# Altium schematic symbol library Resistor_0805.SchLib: 259 symbols (part 5 of 6)
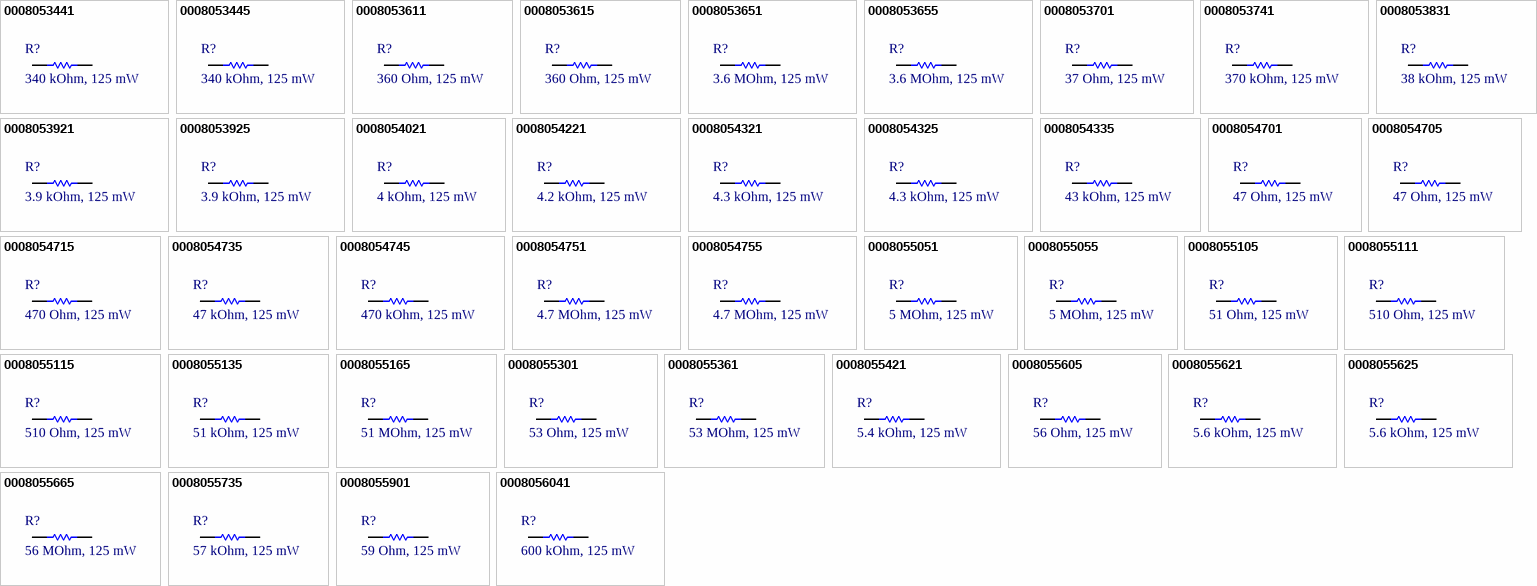
[diagram p10: symbols 0008053441 to 0008056041]

## 0008054701
designator R?, comment 47 Ohm, 125 mW
RES, size 0805, 47 Ohm, 1/8W, 1%; Resistance: 47 Ohm; Rated Power: 125 mW; Value: 47 Ohm; Tolerance: +/-1%; Supplier 1 URL: https://www.mouser.vn/ProductDetail/Vishay-Dale/CRCW080547R0FKEAC?qs=sGAEpiMZZMtG0KNrPCHnjXEaY7S8QU1xqWAhWghT5Nm8CvYwuUC%2Fbg%3D%3D; Supplier 2 URL: https://www.digikey.com/en/products/detail/yageo/AC0805FR-0747RL/5896860; Supplier 3 URL: N/A; Packaging: Tape and Reel; Supplier 1: Mouser; Supplier 1 Part Number: 71-CRCW080547R0FKEAC; Supplier 2: Digi-Key; Supplier 2 Part Number: YAG3736DKR-ND; Supplier 3: thegioiic; Supplier 3 Part Number: OEM; Manufacturer: N/A; Manufacturer Part Number: N/A; ComponentLink1Description: Datasheet; ComponentLink1URL: N/A; Mount: SMD/SMT; Operating Temperature Max: + 85 C; Operating Temperature Min: - 40 C; Package / Case: 0805; LCSC Part #: N/A
footprint RES_0805 (Chip Resistor, 2-Leads, Body 2.05x1.25mm, IPC Medium Density)
simulation model R_Resistor_Default (Model Description)
signal-integrity model Resistor Model
pins: 1, 2

## 0008054705
designator R?, comment 47 Ohm, 125 mW
RES, size 0805, 47 Ohm, 1/8W, 1%; Resistance: 47 Ohm; Rated Power: 125 mW; Value: 47 Ohm; Tolerance: +/-1%; Supplier 1 URL: https://www.mouser.vn/ProductDetail/YAGEO/SR0805JR-7W47RL?qs=qpJ%252B%252B%252Bdg6p2peTGbDOh2RQ%3D%3D; Supplier 2 URL: https://www.digikey.com/en/products/detail/yageo/RC0805JR-0747RL/728335; Supplier 3 URL: N/A; Packaging: Tape and Reel; Supplier 1: Mouser; Supplier 1 Part Number: 603-SR0805JR-7W47RL; Supplier 2: Digi-Key; Supplier 2 Part Number: 311-47ARTR-ND; Supplier 3: thegioiic; Supplier 3 Part Number: OEM; Manufacturer: N/A; Manufacturer Part Number: N/A; ComponentLink1Description: Datasheet; ComponentLink1URL: N/A; Mount: SMD/SMT; Operating Temperature Max: + 85 C; Operating Temperature Min: - 40 C; Package / Case: 0805; LCSC Part #: N/A
footprint RES_0805 (Chip Resistor, 2-Leads, Body 2.05x1.25mm, IPC Medium Density)
simulation model R_Resistor_Default (Model Description)
signal-integrity model Resistor Model
pins: 1, 2

## 0008054715
designator R?, comment 470 Ohm, 125 mW
RES, size 0805, 470 Ohm, 1/8W, 1%; Resistance: 470 Ohm; Rated Power: 125 mW; Value: 470 Ohm; Tolerance: +/-1%; Supplier 1 URL: N/A; Supplier 2 URL: https://www.digikey.com/en/products/detail/yageo/RC0805JR-07470RL/728333; Supplier 3 URL: N/A; Packaging: Tape and Reel; Supplier 1: Mouser; Supplier 1 Part Number: N/A; Supplier 2: Digi-Key; Supplier 2 Part Number: 311-470ARTR-ND; Supplier 3: thegioiic; Supplier 3 Part Number: OEM; Manufacturer: N/A; Manufacturer Part Number: N/A; ComponentLink1Description: Datasheet; ComponentLink1URL: N/A; Mount: SMD/SMT; Operating Temperature Max: + 85 C; Operating Temperature Min: - 40 C; Package / Case: 0805; LCSC Part #: N/A
footprint RES_0805 (Chip Resistor, 2-Leads, Body 2.05x1.25mm, IPC Medium Density)
simulation model R_Resistor_Default (Model Description)
signal-integrity model Resistor Model
pins: 1, 2

## 0008054735
designator R?, comment 47 kOhm, 125 mW
RES, size 0805, 47 kOhm, 1/8W, 1%; Resistance: 47 kOhm; Rated Power: 125 mW; Value: 47 kOhm; Tolerance: +/-1%; Supplier 1 URL: https://www.mouser.vn/ProductDetail/Bourns/CR0805-JW-473ELF?qs=%252BcBkmVQIZ2S5L%2FTv0l5Nkg%3D%3D; Supplier 2 URL: https://www.digikey.com/en/products/detail/yageo/RC0805JR-1347KL/14286620; Supplier 3 URL: N/A; Packaging: Tape and Reel; Supplier 1: Mouser; Supplier 1 Part Number: 652-CR0805JW-473ELF; Supplier 2: Digi-Key; Supplier 2 Part Number: 13-RC0805JR-1347KLTR-ND; Supplier 3: thegioiic; Supplier 3 Part Number: OEM; Manufacturer: N/A; Manufacturer Part Number: N/A; ComponentLink1Description: Datasheet; ComponentLink1URL: N/A; Mount: SMD/SMT; Operating Temperature Max: + 85 C; Operating Temperature Min: - 40 C; Package / Case: 0805; LCSC Part #: N/A
footprint RES_0805 (Chip Resistor, 2-Leads, Body 2.05x1.25mm, IPC Medium Density)
simulation model R_Resistor_Default (Model Description)
signal-integrity model Resistor Model
pins: 1, 2

## 0008054745
designator R?, comment 470 kOhm, 125 mW
RES, size 0805, 470 kOhm, 1/8W, 1%; Rated Power: 125 mW; Tolerance: +/-1%; Resistance: 470 kOhm; Supplier 1 URL: https://www.mouser.vn/ProductDetail/YAGEO/RC0805JR-10470KL?qs=qpJ%252B%252B%252Bdg6p2o1a4CuTWYzg%3D%3D; Supplier 2 URL: https://www.digikey.com/en/products/detail/yageo/RC0805JR-07470KL/728334; Supplier 3 URL: N/A; Value: 470 kOhm; Packaging: Tape and Reel; Supplier 1: Mouser; Supplier 1 Part Number: 603-RC0805JR-10470KL; Supplier 2: Digi-Key; Supplier 2 Part Number: 311-470KARTR-ND; Supplier 3: thegioiic; Supplier 3 Part Number: OEM; Manufacturer: N/A; Manufacturer Part Number: N/A; ComponentLink1Description: Datasheet; ComponentLink1URL: N/A; Mount: SMD/SMT; Operating Temperature Max: + 85 C; Operating Temperature Min: - 40 C; Package / Case: 0805; LCSC Part #: N/A
footprint RES_0805 (Chip Resistor, 2-Leads, Body 2.05x1.25mm, IPC Medium Density)
simulation model R_Resistor_Default (Model Description)
signal-integrity model Resistor Model
pins: 1, 2

## 0008054751
designator R?, comment 4.7 MOhm, 125 mW
RES, size 0805, 4.7 MOhm, 1/8W, 1%; Rated Power: 125 mW; Tolerance: +/-1%; Resistance: 4.7 MOhm; Supplier 1 URL: https://www.mouser.vn/ProductDetail/Vishay-Dale/CRCW08054M70FKEAC?qs=sGAEpiMZZMtG0KNrPCHnjXEaY7S8QU1xD%2FzUprtrgpPLDplF24MA4A%3D%3D; Supplier 2 URL: https://www.digikey.com/en/products/detail/yageo/RC0805FR-074M7L/727930; Supplier 3 URL: N/A; Value: 4.7 MOhm; Packaging: Tape and Reel; Supplier 1: Mouser; Supplier 1 Part Number: 71-CRCW08054M70FKEAC; Supplier 2: Digi-Key; Supplier 2 Part Number: 311-4.70MCRDKR-ND; Supplier 3: thegioiic; Supplier 3 Part Number: OEM; Manufacturer: N/A; Manufacturer Part Number: N/A; ComponentLink1Description: Datasheet; ComponentLink1URL: N/A; Mount: SMD/SMT; Operating Temperature Max: + 85 C; Operating Temperature Min: - 40 C; Package / Case: 0805; LCSC Part #: N/A
footprint RES_0805 (Chip Resistor, 2-Leads, Body 2.05x1.25mm, IPC Medium Density)
simulation model R_Resistor_Default (Model Description)
signal-integrity model Resistor Model
pins: 1, 2

## 0008054755
designator R?, comment 4.7 MOhm, 125 mW
RES, size 0805, 4.7 MOhm, 1/8W, 1%; Rated Power: 125 mW; Tolerance: +/-1%; Resistance: 4.7 MOhm; Supplier 1 URL: https://www.mouser.vn/ProductDetail/YAGEO/RV0805JR-074M7L?qs=XvqVlMQ4V3WjwKR%2FSBdWbg%3D%3D; Supplier 2 URL: https://www.digikey.com/en/products/detail/yageo/RC0805JR-074M7L/728328; Supplier 3 URL: N/A; Value: 4.7 MOhm; Packaging: Tape and Reel; Supplier 1: Mouser; Supplier 1 Part Number: 603-RV0805JR-074M7L; Supplier 2: Digi-Key; Supplier 2 Part Number: 311-4.7MARTR-ND; Supplier 3: thegioiic; Supplier 3 Part Number: OEM; Manufacturer: N/A; Manufacturer Part Number: N/A; ComponentLink1Description: Datasheet; ComponentLink1URL: N/A; Mount: SMD/SMT; Operating Temperature Max: + 85 C; Operating Temperature Min: - 40 C; Package / Case: 0805; LCSC Part #: N/A
footprint RES_0805 (Chip Resistor, 2-Leads, Body 2.05x1.25mm, IPC Medium Density)
simulation model R_Resistor_Default (Model Description)
signal-integrity model Resistor Model
pins: 1, 2

## 0008055051
designator R?, comment 5 MOhm, 125 mW
RES, size 0805, 5 MOhm, 1/8W, 1%; Resistance: 5 MOhm; Rated Power: 125 mW; Value: 5 MOhm; Tolerance: +/-1%; Supplier 1 URL: N/A; Supplier 2 URL: https://www.digikey.com/en/products/detail/ohmite/HVC0805T5004JET/2709618; Supplier 3 URL: N/A; Packaging: Tape and Reel; Supplier 1: Mouser; Supplier 1 Part Number: N/A; Supplier 2: Digi-Key; Supplier 2 Part Number: HVC0805T5004JETDKR-ND; Supplier 3: thegioiic; Supplier 3 Part Number: OEM; Manufacturer: N/A; Manufacturer Part Number: N/A; ComponentLink1Description: Datasheet; ComponentLink1URL: N/A; Mount: SMD/SMT; Operating Temperature Max: + 85 C; Operating Temperature Min: - 40 C; Package / Case: 0805; LCSC Part #: N/A
footprint RES_0805 (Chip Resistor, 2-Leads, Body 2.05x1.25mm, IPC Medium Density)
simulation model R_Resistor_Default (Model Description)
signal-integrity model Resistor Model
pins: 1, 2

## 0008055055
designator R?, comment 5 MOhm, 125 mW
RES, size 0805, 5 MOhm, 1/8W, 1%; Resistance: 5 MOhm; Rated Power: 125 mW; Value: 5 MOhm; Tolerance: +/-1%; Supplier 1 URL: https://www.mouser.vn/ProductDetail/Ohmite/HVC0805T5004JET?qs=IinxsTLir9kGxgRcWz40Rg%3D%3D; Supplier 2 URL: https://www.digikey.com/en/products/detail/ohmite/HVC0805T5004JET/2709618?s=N4IgjCBcoMxaBjKAzAhgGwM4FMA0IB7KAbRACYBWABjgF18AHAFyhAGUmAnASwDsBzEAF98YMgE4I0EEkhoseQiRAxxMMgA4Q9EM1YceA4fjJUNFeDJQYc%2BIpFIUABAFkA8gAsAtpm2MWkCAAqrzcTG7ILtiomACunNjCQkJAA; Supplier 3 URL: N/A; Packaging: Tape and Reel; Supplier 1: Mouser; Supplier 1 Part Number: 588-HVC0805T5004JET; Supplier 2: Digi-Key; Supplier 2 Part Number: HVC0805T5004JETTR-ND; Supplier 3: thegioiic; Supplier 3 Part Number: OEM; Manufacturer: N/A; Manufacturer Part Number: N/A; ComponentLink1Description: Datasheet; ComponentLink1URL: N/A; Mount: SMD/SMT; Operating Temperature Max: + 85 C; Operating Temperature Min: - 40 C; Package / Case: 0805; LCSC Part #: N/A
footprint RES_0805 (Chip Resistor, 2-Leads, Body 2.05x1.25mm, IPC Medium Density)
simulation model R_Resistor_Default (Model Description)
signal-integrity model Resistor Model
pins: 1, 2

## 0008055105
designator R?, comment 51 Ohm, 125 mW
RES, size 0805, 51 Ohm, 1/8W, 1%; Resistance: 51 Ohm; Rated Power: 125 mW; Value: 51 Ohm; Tolerance: +/-1%; Supplier 1 URL: https://www.mouser.vn/ProductDetail/YAGEO/AR0805JR-0751RL?qs=FNor9lU6pf8H%252BiQv38MEeQ%3D%3D; Supplier 2 URL: https://www.digikey.com/en/products/detail/yageo/RC0805JR-0751RL/728345; Supplier 3 URL: N/A; Packaging: Tape and Reel; Supplier 1: Mouser; Supplier 1 Part Number: 603-AR0805JR-0751RL; Supplier 2: Digi-Key; Supplier 2 Part Number: 311-51ARTR-ND; Supplier 3: thegioiic; Supplier 3 Part Number: OEM; Manufacturer: N/A; Manufacturer Part Number: N/A; ComponentLink1Description: Datasheet; ComponentLink1URL: N/A; Mount: SMD/SMT; Operating Temperature Max: + 85 C; Operating Temperature Min: - 40 C; Package / Case: 0805; LCSC Part #: N/A
footprint RES_0805 (Chip Resistor, 2-Leads, Body 2.05x1.25mm, IPC Medium Density)
simulation model R_Resistor_Default (Model Description)
signal-integrity model Resistor Model
pins: 1, 2

## 0008055111
designator R?, comment 510 Ohm, 125 mW
RES, size 0805, 510 Ohm, 1/8W, 1%; Resistance: 510 Ohm; Rated Power: 125 mW; Value: 510 Ohm; Tolerance: +/-1%; Supplier 1 URL: https://www.mouser.vn/ProductDetail/ROHM-Semiconductor/SFR10EZPF5100?qs=sGAEpiMZZMtlubZbdhIBIONtIqra%2FA5YrlwGIIC%252BgoQ%3D; Supplier 2 URL: https://www.digikey.com/en/products/detail/yageo/RC0805JR-07510RL/728343; Supplier 3 URL: N/A; Packaging: Tape and Reel; Supplier 1: Mouser; Supplier 1 Part Number: 755-SFR10EZPF5100; Supplier 2: Digi-Key; Supplier 2 Part Number: 311-510ARDKR-ND; Supplier 3: thegioiic; Supplier 3 Part Number: OEM; Manufacturer: N/A; Manufacturer Part Number: N/A; ComponentLink1Description: Datasheet; ComponentLink1URL: N/A; Mount: SMD/SMT; Operating Temperature Max: + 85 C; Operating Temperature Min: - 40 C; Package / Case: 0805; LCSC Part #: N/A
footprint RES_0805 (Chip Resistor, 2-Leads, Body 2.05x1.25mm, IPC Medium Density)
simulation model R_Resistor_Default (Model Description)
signal-integrity model Resistor Model
pins: 1, 2

## 0008055115
designator R?, comment 510 Ohm, 125 mW
RES, size 0805, 510 Ohm, 1/8W, 1%; Resistance: 510 Ohm; Rated Power: 125 mW; Value: 510 Ohm; Tolerance: +/-1%; Supplier 1 URL: https://www.mouser.vn/ProductDetail/YAGEO/AR0805JR-07510RL?qs=tggtontpCXM60VkCGWdMxQ%3D%3D; Supplier 2 URL: https://www.digikey.com/en/products/detail/yageo/RC0805JR-07510RL/728343; Supplier 3 URL: N/A; Packaging: Tape and Reel; Supplier 1: Mouser; Supplier 1 Part Number: 603-AR0805JR-07510RL; Supplier 2: Digi-Key; Supplier 2 Part Number: 311-510ARTR-ND; Supplier 3: thegioiic; Supplier 3 Part Number: OEM; Manufacturer: N/A; Manufacturer Part Number: N/A; ComponentLink1Description: Datasheet; ComponentLink1URL: N/A; Mount: SMD/SMT; Operating Temperature Max: + 85 C; Operating Temperature Min: - 40 C; Package / Case: 0805; LCSC Part #: N/A
footprint RES_0805 (Chip Resistor, 2-Leads, Body 2.05x1.25mm, IPC Medium Density)
simulation model R_Resistor_Default (Model Description)
signal-integrity model Resistor Model
pins: 1, 2

## 0008055135
designator R?, comment 51 kOhm, 125 mW
RES, size 0805, 51 kOhm, 1/8W, 1%; Resistance: 51 kOhm; Rated Power: 125 mW; Value: 51 kOhm; Tolerance: +/-1%; Supplier 1 URL: https://www.mouser.vn/ProductDetail/YAGEO/AC0805JR-0751KL?qs=ygRr%2FtkhteugpbacGAXg%2FA%3D%3D; Supplier 2 URL: https://www.digikey.com/en/products/detail/yageo/RC0805JR-0751KL/728346; Supplier 3 URL: N/A; Packaging: Tape and Reel; Supplier 1: Mouser; Supplier 1 Part Number: 603-AC0805JR-0751KL; Supplier 2: Digi-Key; Supplier 2 Part Number: 311-51KARTR-ND; Supplier 3: thegioiic; Supplier 3 Part Number: OEM; Manufacturer: N/A; Manufacturer Part Number: N/A; ComponentLink1Description: Datasheet; ComponentLink1URL: N/A; Mount: SMD/SMT; Operating Temperature Max: + 85 C; Operating Temperature Min: - 40 C; Package / Case: 0805; LCSC Part #: N/A
footprint RES_0805 (Chip Resistor, 2-Leads, Body 2.05x1.25mm, IPC Medium Density)
simulation model R_Resistor_Default (Model Description)
signal-integrity model Resistor Model
pins: 1, 2

## 0008055165
designator R?, comment 51 MOhm, 125 mW
RES, size 0805, 51 MOhm, 1/8W, 1%; Resistance: 51 MOhm; Rated Power: 125 mW; Value: 51 MOhm; Tolerance: +/-1%; Supplier 1 URL: https://www.mouser.vn/ProductDetail/YAGEO/RC0805JR-0751ML?qs=tggtontpCXNdnbFdxTk8lw%3D%3D; Supplier 2 URL: https://www.digikey.com/en/products/detail/yageo/RC0805JR-0751ML/5919068; Supplier 3 URL: N/A; Packaging: Tape and Reel; Supplier 1: Mouser; Supplier 1 Part Number: 603-RC0805JR-0751ML; Supplier 2: Digi-Key; Supplier 2 Part Number: 13-RC0805JR-0751MLTR-ND; Supplier 3: thegioiic; Supplier 3 Part Number: OEM; Manufacturer: N/A; Manufacturer Part Number: N/A; ComponentLink1Description: Datasheet; ComponentLink1URL: N/A; Mount: SMD/SMT; Operating Temperature Max: + 85 C; Operating Temperature Min: - 40 C; Package / Case: 0805; LCSC Part #: N/A
footprint RES_0805 (Chip Resistor, 2-Leads, Body 2.05x1.25mm, IPC Medium Density)
simulation model R_Resistor_Default (Model Description)
signal-integrity model Resistor Model
pins: 1, 2

## 0008055301
designator R?, comment 53 Ohm, 125 mW
RES, size 0805, 53 Ohm, 1/8W, 1%; Resistance: 53 Ohm; Rated Power: 125 mW; Value: 53 Ohm; Tolerance: +/-1%; Supplier 1 URL: N/A; Supplier 2 URL: https://www.digikey.com/en/products/detail/koa-speer-electronics-inc/RN73R2ATTD53R0F25/10034310; Supplier 3 URL: N/A; Packaging: Tape and Reel; Supplier 1: Mouser; Supplier 1 Part Number: N/A; Supplier 2: Digi-Key; Supplier 2 Part Number: 2019-RN73R2ATTD53R0F25DKR-ND; Supplier 3: thegioiic; Supplier 3 Part Number: OEM; Manufacturer: N/A; Manufacturer Part Number: N/A; ComponentLink1Description: Datasheet; ComponentLink1URL: N/A; Mount: SMD/SMT; Operating Temperature Max: + 85 C; Operating Temperature Min: - 40 C; Package / Case: 0805; LCSC Part #: N/A
footprint RES_0805 (Chip Resistor, 2-Leads, Body 2.05x1.25mm, IPC Medium Density)
simulation model R_Resistor_Default (Model Description)
signal-integrity model Resistor Model
pins: 1, 2

## 0008055361
designator R?, comment 53 MOhm, 125 mW
RES, size 0805, 53 MOhm, 1/8W, 1%; Resistance: 53 MOhm; Rated Power: 125 mW; Value: 53 MOhm; Tolerance: +/-1%; Supplier 1 URL: https://www.mouser.vn/ProductDetail/Bourns/CR0805-FX-4872ELF?qs=sGAEpiMZZMtlubZbdhIBIL%252BKkaYz7rs3OXEDnL6C198%3D; Supplier 2 URL: https://www.digikey.com/en/products/detail/panasonic-electronic-components/ERJ-6ENF4872V/111609; Supplier 3 URL: N/A; Packaging: Tape and Reel; Supplier 1: Mouser; Supplier 1 Part Number: 652-CR0805FX-4872ELF; Supplier 2: Digi-Key; Supplier 2 Part Number: P48.7KCDKR-ND; Supplier 3: thegioiic; Supplier 3 Part Number: OEM; Manufacturer: N/A; Manufacturer Part Number: N/A; ComponentLink1Description: Datasheet; ComponentLink1URL: N/A; Mount: SMD/SMT; Operating Temperature Max: + 85 C; Operating Temperature Min: - 40 C; Package / Case: 0805; LCSC Part #: N/A
footprint RES_0805 (Chip Resistor, 2-Leads, Body 2.05x1.25mm, IPC Medium Density)
simulation model R_Resistor_Default (Model Description)
signal-integrity model Resistor Model
pins: 1, 2

## 0008055421
designator R?, comment 5.4 kOhm, 125 mW
RES, size 0805, 5.4 kOhm, 1/8W, 1%; Rated Power: 125 mW; Tolerance: +/-1%; Resistance: 5.4 kOhm; Supplier 1 URL: https://www.mouser.vn/ProductDetail/Bourns/CR0805-FX-4872ELF?qs=sGAEpiMZZMtlubZbdhIBIL%252BKkaYz7rs3OXEDnL6C198%3D; Supplier 2 URL: https://www.digikey.com/en/products/detail/panasonic-electronic-components/ERJ-6ENF4872V/111609; Supplier 3 URL: N/A; Value: 5.4 kOhm; Packaging: Tape and Reel; Supplier 1: Mouser; Supplier 1 Part Number: 652-CR0805FX-4872ELF; Supplier 2: Digi-Key; Supplier 2 Part Number: P48.7KCDKR-ND; Supplier 3: thegioiic; Supplier 3 Part Number: OEM; Manufacturer: N/A; Manufacturer Part Number: N/A; ComponentLink1Description: Datasheet; ComponentLink1URL: N/A; Mount: SMD/SMT; Operating Temperature Max: + 85 C; Operating Temperature Min: - 40 C; Package / Case: 0805; LCSC Part #: N/A
footprint RES_0805 (Chip Resistor, 2-Leads, Body 2.05x1.25mm, IPC Medium Density)
simulation model R_Resistor_Default (Model Description)
signal-integrity model Resistor Model
pins: 1, 2

## 0008055605
designator R?, comment 56 Ohm, 125 mW
RES, size 0805, 56 Ohm, 1/8W, 1%; Resistance: 56 Ohm; Rated Power: 125 mW; Value: 56 Ohm; Tolerance: +/-1%; Supplier 1 URL: https://www.mouser.vn/ProductDetail/YAGEO/AR0805JR-0756RL?qs=tub3WQyKOl952gLjMEPqLg%3D%3D; Supplier 2 URL: https://www.digikey.com/en/products/detail/yageo/RC0805JR-0756RL/728349; Supplier 3 URL: N/A; Packaging: Tape and Reel; Supplier 1: Mouser; Supplier 1 Part Number: 603-AR0805JR-0756RL; Supplier 2: Digi-Key; Supplier 2 Part Number: 311-56ARTR-ND; Supplier 3: thegioiic; Supplier 3 Part Number: OEM; Manufacturer: N/A; Manufacturer Part Number: N/A; ComponentLink1Description: Datasheet; ComponentLink1URL: N/A; Mount: SMD/SMT; Operating Temperature Max: + 85 C; Operating Temperature Min: - 40 C; Package / Case: 0805; LCSC Part #: N/A
footprint RES_0805 (Chip Resistor, 2-Leads, Body 2.05x1.25mm, IPC Medium Density)
simulation model R_Resistor_Default (Model Description)
signal-integrity model Resistor Model
pins: 1, 2

## 0008055621
designator R?, comment 5.6 kOhm, 125 mW
RES, size 0805, 5.6 kOhm, 1/8W, 1%; Rated Power: 125 mW; Tolerance: +/-1%; Resistance: 5.6 kOhm; Supplier 1 URL: https://www.mouser.vn/ProductDetail/Panasonic/ERJ-S06F5601V?qs=sGAEpiMZZMtlubZbdhIBINuoixIUl6fxKooJ9AKHR88%3D; Supplier 2 URL: https://www.digikey.com/en/products/detail/yageo/RC0805FR-075K6L/728002; Supplier 3 URL: N/A; Value: 5.6 kOhm; Packaging: Tape and Reel; Supplier 1: Mouser; Supplier 1 Part Number: 667-ERJ-S06F5601V; Supplier 2: Digi-Key; Supplier 2 Part Number: 311-5.60KCRDKR-ND; Supplier 3: thegioiic; Supplier 3 Part Number: OEM; Manufacturer: N/A; Manufacturer Part Number: N/A; ComponentLink1Description: Datasheet; ComponentLink1URL: N/A; Mount: SMD/SMT; Operating Temperature Max: + 85 C; Operating Temperature Min: - 40 C; Package / Case: 0805; LCSC Part #: N/A
footprint RES_0805 (Chip Resistor, 2-Leads, Body 2.05x1.25mm, IPC Medium Density)
simulation model R_Resistor_Default (Model Description)
signal-integrity model Resistor Model
pins: 1, 2

## 0008055625
designator R?, comment 5.6 kOhm, 125 mW
RES, size 0805, 5.6 kOhm, 1/8W, 1%; Rated Power: 125 mW; Tolerance: +/-1%; Resistance: 5.6 kOhm; Supplier 1 URL: https://www.mouser.vn/ProductDetail/YAGEO/RC0805JR-075K6L?qs=KyGMWp10Uku18wTu%252ByPOBA%3D%3D; Supplier 2 URL: https://www.digikey.com/en/products/detail/yageo/RC0805JR-075K6L/728341; Supplier 3 URL: N/A; Value: 5.6 kOhm; Packaging: Tape and Reel; Supplier 1: Mouser; Supplier 1 Part Number: 603-RC0805JR-075K6L; Supplier 2: Digi-Key; Supplier 2 Part Number: 311-5.6KARTR-ND; Supplier 3: thegioiic; Supplier 3 Part Number: OEM; Manufacturer: N/A; Manufacturer Part Number: N/A; ComponentLink1Description: Datasheet; ComponentLink1URL: N/A; Mount: SMD/SMT; Operating Temperature Max: + 85 C; Operating Temperature Min: - 40 C; Package / Case: 0805; LCSC Part #: N/A
footprint RES_0805 (Chip Resistor, 2-Leads, Body 2.05x1.25mm, IPC Medium Density)
simulation model R_Resistor_Default (Model Description)
signal-integrity model Resistor Model
pins: 1, 2

## 0008055665
designator R?, comment 56 MOhm, 125 mW
RES, size 0805, 56 MOhm, 1/8W, 1%; Resistance: 56 MOhm; Rated Power: 125 mW; Value: 56 MOhm; Tolerance: +/-1%; Supplier 1 URL: https://www.mouser.vn/ProductDetail/YAGEO/RC0805JR-0756ML?qs=fRxXYNj8ftHNqM0XV2acwg%3D%3D; Supplier 2 URL: https://www.digikey.com/en/products/detail/yageo/RC0805JR-0756ML/5919069; Supplier 3 URL: N/A; Packaging: Tape and Reel; Supplier 1: Mouser; Supplier 1 Part Number: 603-RC0805JR-0756ML; Supplier 2: Digi-Key; Supplier 2 Part Number: 13-RC0805JR-0756MLTR-ND; Supplier 3: thegioiic; Supplier 3 Part Number: OEM; Manufacturer: N/A; Manufacturer Part Number: N/A; ComponentLink1Description: Datasheet; ComponentLink1URL: N/A; Mount: SMD/SMT; Operating Temperature Max: + 85 C; Operating Temperature Min: - 40 C; Package / Case: 0805; LCSC Part #: N/A
footprint RES_0805 (Chip Resistor, 2-Leads, Body 2.05x1.25mm, IPC Medium Density)
simulation model R_Resistor_Default (Model Description)
signal-integrity model Resistor Model
pins: 1, 2

## 0008055735
designator R?, comment 57 kOhm, 125 mW
RES, size 0805, 57 kOhm, 1/8W, 1%; Resistance: 57 kOhm; Rated Power: 125 mW; Value: 57 kOhm; Tolerance: +/-1%; Supplier 1 URL: N/A; Supplier 2 URL: https://www.digikey.com/en/products/detail/vishay-dale/CRCW080557K0JNTA/5075645?s=N4IgjCBcoMxaBjKAzAhgGwM4FMA0IB7KAbRACYBWABjgF18AHAFyhAGUmAnASwDsBzEAF98YMgE4I0EEkhoseQiRAxxMMgA4Q9EM1YceA4fjJUNFeDJQYc%2BIpFIUA7AAIA1gHkAFgFtM2xhZIEABVXm4mD2QAWWxUTABXTmxhISEgA; Supplier 3 URL: N/A; Packaging: Tape and Reel; Supplier 1: Mouser; Supplier 1 Part Number: N/A; Supplier 2: Digi-Key; Supplier 2 Part Number: CRCW080557K0JNTA-ND; Supplier 3: thegioiic; Supplier 3 Part Number: OEM; Manufacturer: N/A; Manufacturer Part Number: N/A; ComponentLink1Description: Datasheet; ComponentLink1URL: N/A; Mount: SMD/SMT; Operating Temperature Max: + 85 C; Operating Temperature Min: - 40 C; Package / Case: 0805; LCSC Part #: N/A
footprint RES_0805 (Chip Resistor, 2-Leads, Body 2.05x1.25mm, IPC Medium Density)
simulation model R_Resistor_Default (Model Description)
signal-integrity model Resistor Model
pins: 1, 2

## 0008055901
designator R?, comment 59 Ohm, 125 mW
RES, size 0805, 59 Ohm, 1/8W, 1%; Resistance: 59 Ohm; Rated Power: 125 mW; Value: 59 Ohm; Tolerance: +/-1%; Supplier 1 URL: https://www.mouser.vn/ProductDetail/Bourns/CR0805-FX-59R0ELF?qs=sGAEpiMZZMtlubZbdhIBIL%252BKkaYz7rs3UvNcgONvTgQ%3D; Supplier 2 URL: https://www.digikey.com/en/products/detail/yageo/RC0805FR-0759RL/728044; Supplier 3 URL: N/A; Packaging: Tape and Reel; Supplier 1: Mouser; Supplier 1 Part Number: 652-CR0805FX-59R0ELF; Supplier 2: Digi-Key; Supplier 2 Part Number: 311-59.0CRDKR-ND; Supplier 3: thegioiic; Supplier 3 Part Number: OEM; Manufacturer: N/A; Manufacturer Part Number: N/A; ComponentLink1Description: Datasheet; ComponentLink1URL: N/A; Mount: SMD/SMT; Operating Temperature Max: + 85 C; Operating Temperature Min: - 40 C; Package / Case: 0805; LCSC Part #: N/A
footprint RES_0805 (Chip Resistor, 2-Leads, Body 2.05x1.25mm, IPC Medium Density)
simulation model R_Resistor_Default (Model Description)
signal-integrity model Resistor Model
pins: 1, 2

## 0008056041
designator R?, comment 600 kOhm, 125 mW
RES, size 0805, 600 kOhm, 1/8W, 1%; Rated Power: 125 mW; Tolerance: +/-1%; Resistance: 600 kOhm; Supplier 1 URL: https://www.mouser.vn/ProductDetail/YAGEO/RT0805FRE07604KL?qs=4CyHz7GXqShQoD1ZPz9cuQ%3D%3D; Supplier 2 URL: https://www.digikey.com/en/products/detail/yageo/RC0805FR-07604KL/728076; Supplier 3 URL: N/A; Value: 600 kOhm; Packaging: Tape and Reel; Supplier 1: Mouser; Supplier 1 Part Number: 603-RT0805FRE07604KL; Supplier 2: Digi-Key; Supplier 2 Part Number: 311-604KCRTR-ND; Supplier 3: thegioiic; Supplier 3 Part Number: OEM; Manufacturer: N/A; Manufacturer Part Number: N/A; ComponentLink1Description: Datasheet; ComponentLink1URL: N/A; Mount: SMD/SMT; Operating Temperature Max: + 85 C; Operating Temperature Min: - 40 C; Package / Case: 0805; LCSC Part #: N/A
footprint RES_0805 (Chip Resistor, 2-Leads, Body 2.05x1.25mm, IPC Medium Density)
simulation model R_Resistor_Default (Model Description)
signal-integrity model Resistor Model
pins: 1, 2

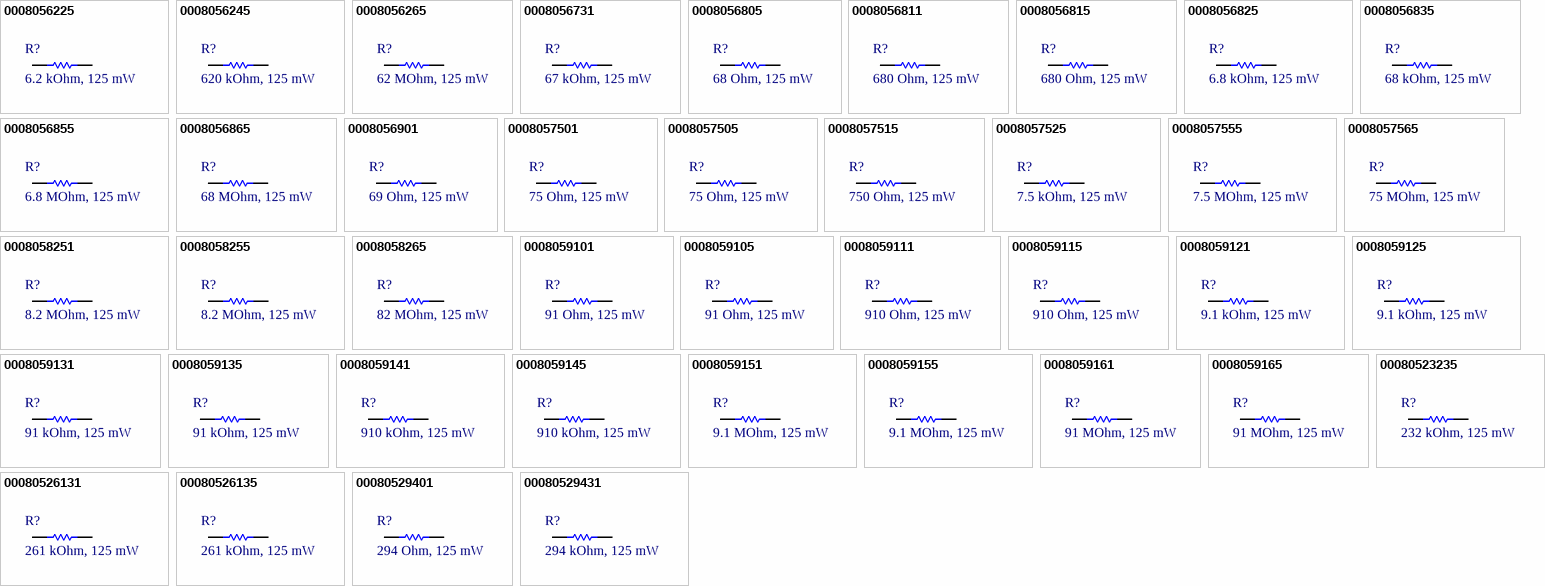
[diagram p5: symbols 0008056225 to 00080529431]

## 0008056225
designator R?, comment 6.2 kOhm, 125 mW
RES, size 0805, 6.2 kOhm, 1/8W, 1%; Rated Power: 125 mW; Tolerance: +/-1%; Resistance: 6.2 kOhm; Supplier 1 URL: https://www.mouser.vn/ProductDetail/YAGEO/AR0805JR-076K2L?qs=tub3WQyKOl9JDoG6%2FuCsdg%3D%3D; Supplier 2 URL: https://www.digikey.com/en/products/detail/yageo/RC0805JR-076K2L/728352; Supplier 3 URL: N/A; Value: 6.2 kOhm; Packaging: Tape and Reel; Supplier 1: Mouser; Supplier 1 Part Number: 603-AR0805JR-076K2L; Supplier 2: Digi-Key; Supplier 2 Part Number: 311-6.2KARTR-ND; Supplier 3: thegioiic; Supplier 3 Part Number: OEM; Manufacturer: N/A; Manufacturer Part Number: N/A; ComponentLink1Description: Datasheet; ComponentLink1URL: N/A; Mount: SMD/SMT; Operating Temperature Max: + 85 C; Operating Temperature Min: - 40 C; Package / Case: 0805; LCSC Part #: N/A
footprint RES_0805 (Chip Resistor, 2-Leads, Body 2.05x1.25mm, IPC Medium Density)
simulation model R_Resistor_Default (Model Description)
signal-integrity model Resistor Model
pins: 1, 2

## 0008056245
designator R?, comment 620 kOhm, 125 mW
RES, size 0805, 620 kOhm, 1/8W, 1%; Rated Power: 125 mW; Tolerance: +/-1%; Resistance: 620 kOhm; Supplier 1 URL: https://www.mouser.vn/ProductDetail/YAGEO/RC0805JR-07620KL?qs=fRxXYNj8ftEPHa535%252B%252BhjA%3D%3D; Supplier 2 URL: https://www.digikey.com/en/products/detail/yageo/RC0805JR-07620KL/728358; Supplier 3 URL: N/A; Value: 620 kOhm; Packaging: Tape and Reel; Supplier 1: Mouser; Supplier 1 Part Number: 603-RC0805JR-07620KL; Supplier 2: Digi-Key; Supplier 2 Part Number: 311-620KARTR-ND; Supplier 3: thegioiic; Supplier 3 Part Number: OEM; Manufacturer: N/A; Manufacturer Part Number: N/A; ComponentLink1Description: Datasheet; ComponentLink1URL: N/A; Mount: SMD/SMT; Operating Temperature Max: + 85 C; Operating Temperature Min: - 40 C; Package / Case: 0805; LCSC Part #: N/A
footprint RES_0805 (Chip Resistor, 2-Leads, Body 2.05x1.25mm, IPC Medium Density)
simulation model R_Resistor_Default (Model Description)
signal-integrity model Resistor Model
pins: 1, 2

## 0008056265
designator R?, comment 62 MOhm, 125 mW
RES, size 0805, 62 MOhm, 1/8W, 1%; Resistance: 62 MOhm; Rated Power: 125 mW; Value: 62 MOhm; Tolerance: +/-1%; Supplier 1 URL: https://www.mouser.vn/ProductDetail/YAGEO/RC0805JR-0762ML?qs=tggtontpCXNKJF4OOPtvwQ%3D%3D; Supplier 2 URL: https://www.digikey.com/en/products/detail/yageo/RC0805JR-0762ML/5919070; Supplier 3 URL: N/A; Packaging: Tape and Reel; Supplier 1: Mouser; Supplier 1 Part Number: 603-RC0805JR-0762ML; Supplier 2: Digi-Key; Supplier 2 Part Number: RC0805JR-0762ML-ND; Supplier 3: thegioiic; Supplier 3 Part Number: OEM; Manufacturer: N/A; Manufacturer Part Number: N/A; ComponentLink1Description: Datasheet; ComponentLink1URL: N/A; Mount: SMD/SMT; Operating Temperature Max: + 85 C; Operating Temperature Min: - 40 C; Package / Case: 0805; LCSC Part #: N/A
footprint RES_0805 (Chip Resistor, 2-Leads, Body 2.05x1.25mm, IPC Medium Density)
simulation model R_Resistor_Default (Model Description)
signal-integrity model Resistor Model
pins: 1, 2

## 0008056731
designator R?, comment 67 kOhm, 125 mW
RES, size 0805, 67 kOhm, 1/8W, 1%; Resistance: 67 kOhm; Rated Power: 125 mW; Value: 67 kOhm; Tolerance: +/-1%; Supplier 1 URL: N/A; Supplier 2 URL: https://www.digikey.com/en/products/detail/vishay-dale/CRCW080567K0FKTA/5075822?s=N4IgjCBcoMxaBjKAzAhgGwM4FMA0IB7KAbXDBggF18AHAFyhAGU6AnASwDsBzEAX3xgATAE4I0EEkhoseQiRAwRMIQA4Q1EPUYsOPfviEAGVQFZ4klBhz4ikUgDYA7AAIA1gHkAFgFtMG2gZIEABVTnY6D2QAWWxUTABXVmx%2BPj4gA; Supplier 3 URL: N/A; Packaging: Tape and Reel; Supplier 1: Mouser; Supplier 1 Part Number: N/A; Supplier 2: Digi-Key; Supplier 2 Part Number: CRCW080567K0FKTA-ND; Supplier 3: thegioiic; Supplier 3 Part Number: OEM; Manufacturer: N/A; Manufacturer Part Number: N/A; ComponentLink1Description: Datasheet; ComponentLink1URL: N/A; Mount: SMD/SMT; Operating Temperature Max: + 85 C; Operating Temperature Min: - 40 C; Package / Case: 0805; LCSC Part #: N/A
footprint RES_0805 (Chip Resistor, 2-Leads, Body 2.05x1.25mm, IPC Medium Density)
simulation model R_Resistor_Default (Model Description)
signal-integrity model Resistor Model
pins: 1, 2

## 0008056805
designator R?, comment 68 Ohm, 125 mW
RES, size 0805, 68 Ohm, 1/8W, 1%; Resistance: 68 Ohm; Rated Power: 125 mW; Value: 68 Ohm; Tolerance: +/-1%; Supplier 1 URL: https://www.mouser.vn/ProductDetail/YAGEO/AR0805JR-0768RL?qs=tub3WQyKOl%252BOpPfup6Oz7w%3D%3D; Supplier 2 URL: https://www.digikey.com/en/products/detail/yageo/RC0805JR-0768RL/728363; Supplier 3 URL: N/A; Packaging: Tape and Reel; Supplier 1: Mouser; Supplier 1 Part Number: 603-AR0805JR-0768RL; Supplier 2: Digi-Key; Supplier 2 Part Number: 311-68ARTR-ND; Supplier 3: thegioiic; Supplier 3 Part Number: OEM; Manufacturer: N/A; Manufacturer Part Number: N/A; ComponentLink1Description: Datasheet; ComponentLink1URL: N/A; Mount: SMD/SMT; Operating Temperature Max: + 85 C; Operating Temperature Min: - 40 C; Package / Case: 0805; LCSC Part #: N/A
footprint RES_0805 (Chip Resistor, 2-Leads, Body 2.05x1.25mm, IPC Medium Density)
simulation model R_Resistor_Default (Model Description)
signal-integrity model Resistor Model
pins: 1, 2

## 0008056811
designator R?, comment 680 Ohm, 125 mW
RES, size 0805, 680 Ohm, 1/8W, 1%; Resistance: 680 Ohm; Rated Power: 125 mW; Value: 680 Ohm; Tolerance: +/-1%; Supplier 1 URL: https://www.mouser.vn/ProductDetail/YAGEO/RT0805FRE13680RL?qs=1mbolxNpo8eGpxdYBPJieA%3D%3D; Supplier 2 URL: https://www.digikey.com/en/products/detail/yageo/RC0805FR-07680RL/728101; Supplier 3 URL: N/A; Packaging: Tape and Reel; Supplier 1: Mouser; Supplier 1 Part Number: 603-RT0805FRE13680RL; Supplier 2: Digi-Key; Supplier 2 Part Number: 311-680CRTR-ND; Supplier 3: thegioiic; Supplier 3 Part Number: OEM; Manufacturer: N/A; Manufacturer Part Number: N/A; ComponentLink1Description: Datasheet; ComponentLink1URL: N/A; Mount: SMD/SMT; Operating Temperature Max: + 85 C; Operating Temperature Min: - 40 C; Package / Case: 0805; LCSC Part #: N/A
footprint RES_0805 (Chip Resistor, 2-Leads, Body 2.05x1.25mm, IPC Medium Density)
simulation model R_Resistor_Default (Model Description)
signal-integrity model Resistor Model
pins: 1, 2

## 0008056815
designator R?, comment 680 Ohm, 125 mW
RES, size 0805, 680 Ohm, 1/8W, 1%; Resistance: 680 Ohm; Rated Power: 125 mW; Value: 680 Ohm; Tolerance: +/-1%; Supplier 1 URL: https://www.mouser.vn/ProductDetail/YAGEO/AR0805JR-07680RL?qs=tub3WQyKOl9Nj7q7zlrhwQ%3D%3D; Supplier 2 URL: https://www.digikey.com/en/products/detail/yageo/RC0805JR-07680RL/728361; Supplier 3 URL: N/A; Packaging: Tape and Reel; Supplier 1: Mouser; Supplier 1 Part Number: 603-AR0805JR-07680RL; Supplier 2: Digi-Key; Supplier 2 Part Number: 311-680ARTR-ND; Supplier 3: thegioiic; Supplier 3 Part Number: OEM; Manufacturer: N/A; Manufacturer Part Number: N/A; ComponentLink1Description: Datasheet; ComponentLink1URL: N/A; Mount: SMD/SMT; Operating Temperature Max: + 85 C; Operating Temperature Min: - 40 C; Package / Case: 0805; LCSC Part #: N/A
footprint RES_0805 (Chip Resistor, 2-Leads, Body 2.05x1.25mm, IPC Medium Density)
simulation model R_Resistor_Default (Model Description)
signal-integrity model Resistor Model
pins: 1, 2

## 0008056825
designator R?, comment 6.8 kOhm, 125 mW
RES, size 0805, 6.8 kOhm, 1/8W, 1%; Rated Power: 125 mW; Tolerance: +/-1%; Resistance: 6.8 kOhm; Supplier 1 URL: https://www.mouser.vn/ProductDetail/YAGEO/RC0805JR-7W6K8L?qs=NgbZBzc1CyFHZaJSBAwTGw%3D%3D; Supplier 2 URL: https://www.digikey.com/en/products/detail/yageo/RC0805JR-076K8L/728355; Supplier 3 URL: N/A; Value: 6.8 kOhm; Packaging: Tape and Reel; Supplier 1: Mouser; Supplier 1 Part Number: 603-RC0805JR-7W6K8L; Supplier 2: Digi-Key; Supplier 2 Part Number: 311-6.8KARTR-ND; Supplier 3: thegioiic; Supplier 3 Part Number: OEM; Manufacturer: N/A; Manufacturer Part Number: N/A; ComponentLink1Description: Datasheet; ComponentLink1URL: N/A; Mount: SMD/SMT; Operating Temperature Max: + 85 C; Operating Temperature Min: - 40 C; Package / Case: 0805; LCSC Part #: N/A
footprint RES_0805 (Chip Resistor, 2-Leads, Body 2.05x1.25mm, IPC Medium Density)
simulation model R_Resistor_Default (Model Description)
signal-integrity model Resistor Model
pins: 1, 2

## 0008056835
designator R?, comment 68 kOhm, 125 mW
RES, size 0805, 68 kOhm, 1/8W, 1%; Resistance: 68 kOhm; Rated Power: 125 mW; Value: 68 kOhm; Tolerance: +/-1%; Supplier 1 URL: https://www.mouser.vn/ProductDetail/Vishay-Dale/CRCW080568K0JNTA?qs=nQS51YdobUZaOBJTD9nqEw%3D%3D; Supplier 2 URL: https://www.digikey.com/en/products/detail/yageo/RC0805JR-0768KL/728364; Supplier 3 URL: N/A; Packaging: Tape and Reel; Supplier 1: Mouser; Supplier 1 Part Number: 71-CRCW0805J-68K; Supplier 2: Digi-Key; Supplier 2 Part Number: 311-68KARTR-ND; Supplier 3: thegioiic; Supplier 3 Part Number: OEM; Manufacturer: N/A; Manufacturer Part Number: N/A; ComponentLink1Description: Datasheet; ComponentLink1URL: N/A; Mount: SMD/SMT; Operating Temperature Max: + 85 C; Operating Temperature Min: - 40 C; Package / Case: 0805; LCSC Part #: N/A
footprint RES_0805 (Chip Resistor, 2-Leads, Body 2.05x1.25mm, IPC Medium Density)
simulation model R_Resistor_Default (Model Description)
signal-integrity model Resistor Model
pins: 1, 2

## 0008056855
designator R?, comment 6.8 MOhm, 125 mW
RES, size 0805, 6.8 MOhm, 1/8W, 1%; Rated Power: 125 mW; Tolerance: +/-1%; Resistance: 6.8 MOhm; Supplier 1 URL: https://www.mouser.vn/ProductDetail/YAGEO/RC0805JR-076M8L?qs=fRxXYNj8ftHTATc%2FfMlhgw%3D%3D; Supplier 2 URL: https://www.digikey.com/en/products/detail/yageo/RC0805JR-076M8L/728356; Supplier 3 URL: N/A; Value: 6.8 MOhm; Packaging: Tape and Reel; Supplier 1: Mouser; Supplier 1 Part Number: 603-RC0805JR-076M8L; Supplier 2: Digi-Key; Supplier 2 Part Number: 311-6.8MARTR-ND; Supplier 3: thegioiic; Supplier 3 Part Number: OEM; Manufacturer: N/A; Manufacturer Part Number: N/A; ComponentLink1Description: Datasheet; ComponentLink1URL: N/A; Mount: SMD/SMT; Operating Temperature Max: + 85 C; Operating Temperature Min: - 40 C; Package / Case: 0805; LCSC Part #: N/A
footprint RES_0805 (Chip Resistor, 2-Leads, Body 2.05x1.25mm, IPC Medium Density)
simulation model R_Resistor_Default (Model Description)
signal-integrity model Resistor Model
pins: 1, 2

## 0008056865
designator R?, comment 68 MOhm, 125 mW
RES, size 0805, 68 MOhm, 1/8W, 1%; Resistance: 68 MOhm; Rated Power: 125 mW; Value: 68 MOhm; Tolerance: +/-1%; Supplier 1 URL: https://www.mouser.vn/ProductDetail/YAGEO/RC0805JR-1368ML?qs=T8x3LFb0A0T4wMo1k5YNtw%3D%3D; Supplier 2 URL: https://www.digikey.com/en/products/detail/yageo/RC0805JR-0768ML/5919071; Supplier 3 URL: N/A; Packaging: Tape and Reel; Supplier 1: Mouser; Supplier 1 Part Number: 603-RC0805JR-1368ML; Supplier 2: Digi-Key; Supplier 2 Part Number: 13-RC0805JR-0768MLTR-ND; Supplier 3: thegioiic; Supplier 3 Part Number: OEM; Manufacturer: N/A; Manufacturer Part Number: N/A; ComponentLink1Description: Datasheet; ComponentLink1URL: N/A; Mount: SMD/SMT; Operating Temperature Max: + 85 C; Operating Temperature Min: - 40 C; Package / Case: 0805; LCSC Part #: N/A
footprint RES_0805 (Chip Resistor, 2-Leads, Body 2.05x1.25mm, IPC Medium Density)
simulation model R_Resistor_Default (Model Description)
signal-integrity model Resistor Model
pins: 1, 2

## 0008056901
designator R?, comment 69 Ohm, 125 mW
RES, size 0805, 69 Ohm, 1/8W, 1%; Resistance: 69 Ohm; Rated Power: 125 mW; Value: 69 Ohm; Tolerance: +/-1%; Supplier 1 URL: N/A; Supplier 2 URL: https://www.digikey.com/en/products/detail/koa-speer-electronics-inc/RN73R2ATTD69R0F100/10036308; Supplier 3 URL: N/A; Packaging: Tape and Reel; Supplier 1: Mouser; Supplier 1 Part Number: N/A; Supplier 2: Digi-Key; Supplier 2 Part Number: 2019-RN73R2ATTD69R0F100TR-ND; Supplier 3: thegioiic; Supplier 3 Part Number: OEM; Manufacturer: N/A; Manufacturer Part Number: N/A; ComponentLink1Description: Datasheet; ComponentLink1URL: N/A; Mount: SMD/SMT; Operating Temperature Max: + 85 C; Operating Temperature Min: - 40 C; Package / Case: 0805; LCSC Part #: N/A
footprint RES_0805 (Chip Resistor, 2-Leads, Body 2.05x1.25mm, IPC Medium Density)
simulation model R_Resistor_Default (Model Description)
signal-integrity model Resistor Model
pins: 1, 2

## 0008057501
designator R?, comment 75 Ohm, 125 mW
RES, size 0805, 75 Ohm, 1/8W, 1%; Resistance: 75 Ohm; Rated Power: 125 mW; Value: 75 Ohm; Tolerance: +/-1%; Supplier 1 URL: https://www.mouser.vn/ProductDetail/YAGEO/RT0805FRE0775RL?qs=yNCrj0CQcyKAzvrIltP2ow%3D%3D; Supplier 2 URL: https://www.digikey.com/en/products/detail/yageo/RC0805FR-0775RL/728132; Supplier 3 URL: N/A; Packaging: Tape and Reel; Supplier 1: Mouser; Supplier 1 Part Number: 603-RT0805FRE0775RL; Supplier 2: Digi-Key; Supplier 2 Part Number: 311-75.0CRTR-ND; Supplier 3: thegioiic; Supplier 3 Part Number: OEM; Manufacturer: N/A; Manufacturer Part Number: N/A; ComponentLink1Description: Datasheet; ComponentLink1URL: N/A; Mount: SMD/SMT; Operating Temperature Max: + 85 C; Operating Temperature Min: - 40 C; Package / Case: 0805; LCSC Part #: N/A
footprint RES_0805 (Chip Resistor, 2-Leads, Body 2.05x1.25mm, IPC Medium Density)
simulation model R_Resistor_Default (Model Description)
signal-integrity model Resistor Model
pins: 1, 2

## 0008057505
designator R?, comment 75 Ohm, 125 mW
RES, size 0805, 75 Ohm, 1/8W, 1%; Resistance: 75 Ohm; Rated Power: 125 mW; Value: 75 Ohm; Tolerance: +/-1%; Supplier 1 URL: https://www.mouser.vn/ProductDetail/YAGEO/RC0805JR-0775RL?qs=fRxXYNj8ftE7wS9ni6fn7Q%3D%3D; Supplier 2 URL: https://www.digikey.com/en/products/detail/yageo/RC0805JR-0775RL/728370; Supplier 3 URL: N/A; Packaging: Tape and Reel; Supplier 1: Mouser; Supplier 1 Part Number: 603-RC0805JR-0775RL; Supplier 2: Digi-Key; Supplier 2 Part Number: 311-75ARTR-ND; Supplier 3: thegioiic; Supplier 3 Part Number: OEM; Manufacturer: N/A; Manufacturer Part Number: N/A; ComponentLink1Description: Datasheet; ComponentLink1URL: N/A; Mount: SMD/SMT; Operating Temperature Max: + 85 C; Operating Temperature Min: - 40 C; Package / Case: 0805; LCSC Part #: N/A
footprint RES_0805 (Chip Resistor, 2-Leads, Body 2.05x1.25mm, IPC Medium Density)
simulation model R_Resistor_Default (Model Description)
signal-integrity model Resistor Model
pins: 1, 2

## 0008057515
designator R?, comment 750 Ohm, 125 mW
RES, size 0805, 750 Ohm, 1/8W, 1%; Resistance: 750 Ohm; Rated Power: 125 mW; Value: 750 Ohm; Tolerance: +/-1%; Supplier 1 URL: https://www.mouser.vn/ProductDetail/YAGEO/AC0805JR-07750RL?qs=TI15CVqcli0njTnSkpn%2FJw%3D%3D; Supplier 2 URL: https://www.digikey.com/en/products/detail/yageo/RC0805JR-07750RL/728368; Supplier 3 URL: N/A; Packaging: Tape and Reel; Supplier 1: Mouser; Supplier 1 Part Number: 603-AC0805JR-07750RL; Supplier 2: Digi-Key; Supplier 2 Part Number: 311-750ARTR-ND; Supplier 3: thegioiic; Supplier 3 Part Number: OEM; Manufacturer: N/A; Manufacturer Part Number: N/A; ComponentLink1Description: Datasheet; ComponentLink1URL: N/A; Mount: SMD/SMT; Operating Temperature Max: + 85 C; Operating Temperature Min: - 40 C; Package / Case: 0805; LCSC Part #: N/A
footprint RES_0805 (Chip Resistor, 2-Leads, Body 2.05x1.25mm, IPC Medium Density)
simulation model R_Resistor_Default (Model Description)
signal-integrity model Resistor Model
pins: 1, 2

## 0008057525
designator R?, comment 7.5 kOhm, 125 mW
RES, size 0805, 7.5 kOhm, 1/8W, 1%; Rated Power: 125 mW; Tolerance: +/-1%; Resistance: 7.5 kOhm; Supplier 1 URL: https://www.mouser.vn/ProductDetail/Vishay-Dale/CRCW08057K50JNEAC?qs=E3Y5ESvWgWPPvB89PkrkFA%3D%3D; Supplier 2 URL: https://www.digikey.com/en/products/detail/yageo/RC0805JR-077K5L/728366; Supplier 3 URL: N/A; Value: 7.5 kOhm; Packaging: Tape and Reel; Supplier 1: Mouser; Supplier 1 Part Number: 71-CRCW08057K50JNEAC; Supplier 2: Digi-Key; Supplier 2 Part Number: 311-7.5KARTR-ND; Supplier 3: thegioiic; Supplier 3 Part Number: OEM; Manufacturer: N/A; Manufacturer Part Number: N/A; ComponentLink1Description: Datasheet; ComponentLink1URL: N/A; Mount: SMD/SMT; Operating Temperature Max: + 85 C; Operating Temperature Min: - 40 C; Package / Case: 0805; LCSC Part #: N/A
footprint RES_0805 (Chip Resistor, 2-Leads, Body 2.05x1.25mm, IPC Medium Density)
simulation model R_Resistor_Default (Model Description)
signal-integrity model Resistor Model
pins: 1, 2

## 0008057555
designator R?, comment 7.5 MOhm, 125 mW
RES, size 0805, 7.5 MOhm, 1/8W, 1%; Rated Power: 125 mW; Tolerance: +/-1%; Resistance: 7.5 MOhm; Supplier 1 URL: https://www.mouser.vn/ProductDetail/Vishay-Dale/CRCW08057M50JNEA?qs=3kMMNJ4TLu3zaDvEVm8fsw%3D%3D; Supplier 2 URL: https://www.digikey.com/en/products/detail/yageo/RC0805JR-077M5L/728367; Supplier 3 URL: N/A; Value: 7.5 MOhm; Packaging: Tape and Reel; Supplier 1: Mouser; Supplier 1 Part Number: 71-CRCW08057M50JNEA; Supplier 2: Digi-Key; Supplier 2 Part Number: 311-7.5MARTR-ND; Supplier 3: thegioiic; Supplier 3 Part Number: OEM; Manufacturer: N/A; Manufacturer Part Number: N/A; ComponentLink1Description: Datasheet; ComponentLink1URL: N/A; Mount: SMD/SMT; Operating Temperature Max: + 85 C; Operating Temperature Min: - 40 C; Package / Case: 0805; LCSC Part #: N/A
footprint RES_0805 (Chip Resistor, 2-Leads, Body 2.05x1.25mm, IPC Medium Density)
simulation model R_Resistor_Default (Model Description)
signal-integrity model Resistor Model
pins: 1, 2

## 0008057565
designator R?, comment 75 MOhm, 125 mW
RES, size 0805, 75 MOhm, 1/8W, 1%; Resistance: 75 MOhm; Rated Power: 125 mW; Value: 75 MOhm; Tolerance: +/-1%; Supplier 1 URL: https://www.mouser.vn/ProductDetail/YAGEO/RC0805JR-0775ML?qs=tggtontpCXNahOr45CxKUg%3D%3D; Supplier 2 URL: https://www.digikey.com/en/products/detail/yageo/RC0805JR-0775ML/5919072; Supplier 3 URL: N/A; Packaging: Tape and Reel; Supplier 1: Mouser; Supplier 1 Part Number: 603-RC0805JR-0775ML; Supplier 2: Digi-Key; Supplier 2 Part Number: RC0805JR-0775ML-ND; Supplier 3: thegioiic; Supplier 3 Part Number: OEM; Manufacturer: N/A; Manufacturer Part Number: N/A; ComponentLink1Description: Datasheet; ComponentLink1URL: N/A; Mount: SMD/SMT; Operating Temperature Max: + 85 C; Operating Temperature Min: - 40 C; Package / Case: 0805; LCSC Part #: N/A
footprint RES_0805 (Chip Resistor, 2-Leads, Body 2.05x1.25mm, IPC Medium Density)
simulation model R_Resistor_Default (Model Description)
signal-integrity model Resistor Model
pins: 1, 2

## 0008058251
designator R?, comment 8.2 MOhm, 125 mW
RES, size 0805, 8.2 MOhm, 1/8W, 1%; Rated Power: 125 mW; Tolerance: +/-1%; Resistance: 8.2 MOhm; Supplier 1 URL: N/A; Supplier 2 URL: https://www.digikey.com/en/products/detail/yageo/RC0805FR-078M2L/5919049; Supplier 3 URL: N/A; Value: 8.2 MOhm; Packaging: Tape and Reel; Supplier 1: Mouser; Supplier 1 Part Number: N/A; Supplier 2: Digi-Key; Supplier 2 Part Number: 13-RC0805FR-078M2LTR-ND; Supplier 3: thegioiic; Supplier 3 Part Number: OEM; Manufacturer: N/A; Manufacturer Part Number: N/A; ComponentLink1Description: Datasheet; ComponentLink1URL: N/A; Mount: SMD/SMT; Operating Temperature Max: + 85 C; Operating Temperature Min: - 40 C; Package / Case: 0805; LCSC Part #: N/A
footprint RES_0805 (Chip Resistor, 2-Leads, Body 2.05x1.25mm, IPC Medium Density)
simulation model R_Resistor_Default (Model Description)
signal-integrity model Resistor Model
pins: 1, 2

## 0008058255
designator R?, comment 8.2 MOhm, 125 mW
RES, size 0805, 8.2 MOhm, 1/8W, 1%; Rated Power: 125 mW; Tolerance: +/-1%; Resistance: 8.2 MOhm; Supplier 1 URL: https://www.mouser.vn/ProductDetail/Bourns/CR0805-JW-825ELF?qs=3wWX5hyYeeTFo4Cuu04AFA%3D%3D; Supplier 2 URL: https://www.digikey.com/en/products/detail/yageo/RC0805JR-078M2L/728374; Supplier 3 URL: N/A; Value: 8.2 MOhm; Packaging: Tape and Reel; Supplier 1: Mouser; Supplier 1 Part Number: 652-CR0805JW-825ELF; Supplier 2: Digi-Key; Supplier 2 Part Number: 311-8.2MARTR-ND; Supplier 3: thegioiic; Supplier 3 Part Number: OEM; Manufacturer: N/A; Manufacturer Part Number: N/A; ComponentLink1Description: Datasheet; ComponentLink1URL: N/A; Mount: SMD/SMT; Operating Temperature Max: + 85 C; Operating Temperature Min: - 40 C; Package / Case: 0805; LCSC Part #: N/A
footprint RES_0805 (Chip Resistor, 2-Leads, Body 2.05x1.25mm, IPC Medium Density)
simulation model R_Resistor_Default (Model Description)
signal-integrity model Resistor Model
pins: 1, 2

## 0008058265
designator R?, comment 82 MOhm, 125 mW
RES, size 0805, 82 MOhm, 1/8W, 1%; Resistance: 82 MOhm; Rated Power: 125 mW; Value: 82 MOhm; Tolerance: +/-1%; Supplier 1 URL: https://www.mouser.vn/ProductDetail/YAGEO/RC0805JR-1382ML?qs=k5Usg7mMyeD4ir7b8mjLXg%3D%3D; Supplier 2 URL: https://www.digikey.com/en/products/detail/yageo/RC0805JR-0775RL/728370; Supplier 3 URL: N/A; Packaging: Tape and Reel; Supplier 1: Mouser; Supplier 1 Part Number: 603-RC0805JR-1382ML; Supplier 2: Digi-Key; Supplier 2 Part Number: 311-75ARTR-ND; Supplier 3: thegioiic; Supplier 3 Part Number: OEM; Manufacturer: N/A; Manufacturer Part Number: N/A; ComponentLink1Description: Datasheet; ComponentLink1URL: N/A; Mount: SMD/SMT; Operating Temperature Max: + 85 C; Operating Temperature Min: - 40 C; Package / Case: 0805; LCSC Part #: N/A
footprint RES_0805 (Chip Resistor, 2-Leads, Body 2.05x1.25mm, IPC Medium Density)
simulation model R_Resistor_Default (Model Description)
signal-integrity model Resistor Model
pins: 1, 2

## 0008059101
designator R?, comment 91 Ohm, 125 mW
RES, size 0805, 91 Ohm, 1/8W, 1%; Resistance: 91 Ohm; Rated Power: 125 mW; Value: 91 Ohm; Tolerance: +/-1%; Supplier 1 URL: https://www.mouser.vn/ProductDetail/YAGEO/RC0805FR-0791RL?qs=g6xwsc4j%252B%2Fp%2FT%2FNAjeTsEA%3D%3D; Supplier 2 URL: https://www.digikey.com/en/products/detail/yageo/RC0805FR-0791RL/728201; Supplier 3 URL: N/A; Packaging: Tape and Reel; Supplier 1: Mouser; Supplier 1 Part Number: 603-RC0805FR-0791RL; Supplier 2: Digi-Key; Supplier 2 Part Number: 311-91.0CRTR-ND; Supplier 3: thegioiic; Supplier 3 Part Number: OEM; Manufacturer: N/A; Manufacturer Part Number: N/A; ComponentLink1Description: Datasheet; ComponentLink1URL: N/A; Mount: SMD/SMT; Operating Temperature Max: + 85 C; Operating Temperature Min: - 40 C; Package / Case: 0805; LCSC Part #: N/A
footprint RES_0805 (Chip Resistor, 2-Leads, Body 2.05x1.25mm, IPC Medium Density)
simulation model R_Resistor_Default (Model Description)
signal-integrity model Resistor Model
pins: 1, 2

## 0008059105
designator R?, comment 91 Ohm, 125 mW
RES, size 0805, 91 Ohm, 1/8W, 1%; Resistance: 91 Ohm; Rated Power: 125 mW; Value: 91 Ohm; Tolerance: +/-1%; Supplier 1 URL: https://www.mouser.vn/ProductDetail/YAGEO/RC0805JR-0791RL?qs=fRxXYNj8ftF6WLOxKQFHYw%3D%3D; Supplier 2 URL: https://www.digikey.com/en/products/detail/yageo/RC0805JR-0791RL/728384; Supplier 3 URL: N/A; Packaging: Tape and Reel; Supplier 1: Mouser; Supplier 1 Part Number: 603-RC0805JR-0791RL; Supplier 2: Digi-Key; Supplier 2 Part Number: 311-91ARTR-ND; Supplier 3: thegioiic; Supplier 3 Part Number: OEM; Manufacturer: N/A; Manufacturer Part Number: N/A; ComponentLink1Description: Datasheet; ComponentLink1URL: N/A; Mount: SMD/SMT; Operating Temperature Max: + 85 C; Operating Temperature Min: - 40 C; Package / Case: 0805; LCSC Part #: N/A
footprint RES_0805 (Chip Resistor, 2-Leads, Body 2.05x1.25mm, IPC Medium Density)
simulation model R_Resistor_Default (Model Description)
signal-integrity model Resistor Model
pins: 1, 2

## 0008059111
designator R?, comment 910 Ohm, 125 mW
RES, size 0805, 910 Ohm, 1/8W, 1%; Resistance: 910 Ohm; Rated Power: 125 mW; Value: 910 Ohm; Tolerance: +/-1%; Supplier 1 URL: https://www.mouser.vn/ProductDetail/YAGEO/RC0805FR-07910RL?qs=g6xwsc4j%252B%2FoZ2NamZOKACA%3D%3D; Supplier 2 URL: https://www.digikey.com/en/products/detail/yageo/RC0805FR-07910RL/728203; Supplier 3 URL: N/A; Packaging: Tape and Reel; Supplier 1: Mouser; Supplier 1 Part Number: 603-RC0805FR-07910RL; Supplier 2: Digi-Key; Supplier 2 Part Number: 311-910CRTR-ND; Supplier 3: thegioiic; Supplier 3 Part Number: OEM; Manufacturer: N/A; Manufacturer Part Number: N/A; ComponentLink1Description: Datasheet; ComponentLink1URL: N/A; Mount: SMD/SMT; Operating Temperature Max: + 85 C; Operating Temperature Min: - 40 C; Package / Case: 0805; LCSC Part #: N/A
footprint RES_0805 (Chip Resistor, 2-Leads, Body 2.05x1.25mm, IPC Medium Density)
simulation model R_Resistor_Default (Model Description)
signal-integrity model Resistor Model
pins: 1, 2